# EAGLE library part S8B-XH (library con-jst-xh)
JST XH series header 2.50mm pitch disconnectable crimp style connectors, horizontal (side entry type), 8 pins
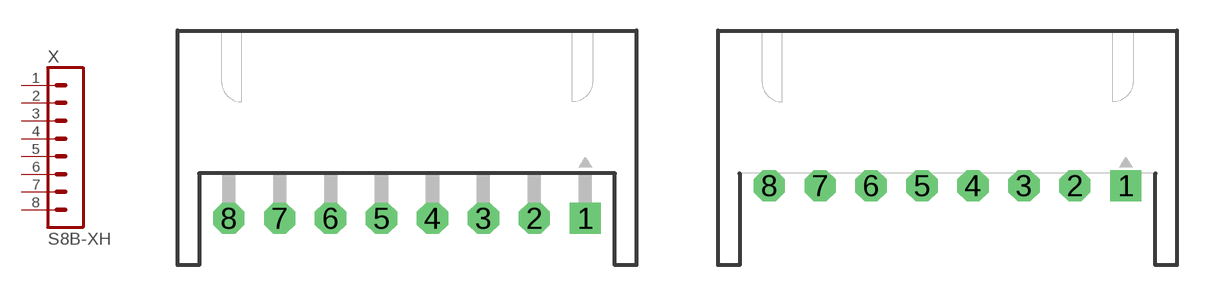
[diagram p14: symbol with the pads of S8B-XH-A; footprints S8B-XH-A, S8B-XH-A-1]

Designator prefix X

## S8B-XH-A  [S8B-XH-A]
1  1  pas
2  2  pas
3  3  pas
4  4  pas
5  5  pas
6  6  pas
7  7  pas
8  8  pas

## S8B-XH-A-1  [S8B-XH-A-1]
Pads as for S8B-XH-A

## Footprint S8B-XH-A (pad centres in mm)
JST XH series header 2.50mm pitch disconnectable crimp style connectors, horizontal (side entry type), 8 pins
drill 0.9 pad 1.524 square: 1 8.75,0
drill 0.9 pad 1.524 octagon: 2 6.25,0; 3 3.75,0; 4 1.25,0; 5 -1.25,0; 6 -3.75,0; 7 -6.25,0; 8 -8.75,0

## Footprint S8B-XH-A-1 (pad centres in mm)
JST XH series header 2.50mm pitch disconnectable crimp style connectors, horizontal (side entry type), 8 pins
drill 0.9 pad 1.524 square: 1 8.75,0
drill 0.9 pad 1.524 octagon: 2 6.25,0; 3 3.75,0; 4 1.25,0; 5 -1.25,0; 6 -3.75,0; 7 -6.25,0; 8 -8.75,0